# EAGLE library part FPC052002-12LT (library template)
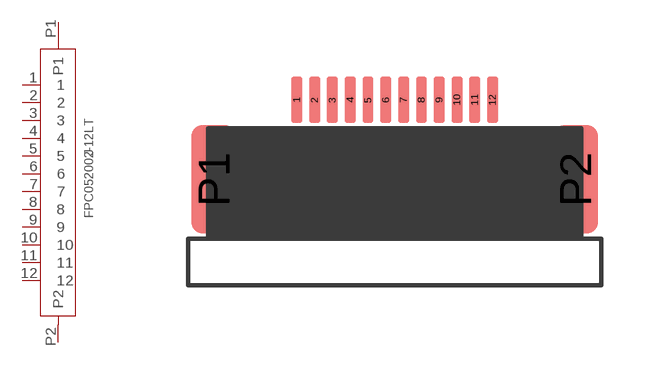
[diagram p21: symbol with the pads of 12P-0.5; footprint 12P-0.5]

Designator prefix J

## FPC052002-12LT  [12P-0.5]
1  1
2  2
3  3
4  4
5  5
6  6
7  7
8  8
9  9
10  10
11  11
12  12
P1  P1
P2  P2

## Footprint 12P-0.5 (pad centres in mm)
smd 0.3 x 1.3: 1 -2.75,2.35; 2 -2.25,2.35; 3 -1.75,2.35; 4 -1.25,2.35; 5 -0.75,2.35; 6 -0.25,2.35; 7 0.25,2.35; 8 0.75,2.35; 9 1.25,2.35; 10 1.75,2.35; 11 2.25,2.35; 12 2.75,2.35
smd 1.27 x 3.048: P1 -5.08,0.127; P2 5.08,0.127